# Altium footprint library KF接线端子.PcbLib: 88 footprints (part 1 of 6)
Each footprint in its own frame and in the unit in brackets; x right, y up, seen from the top. Pads: shape width x height; smd on the part's side, far side on the other; paste and mask are expansions set on the pad; w line width, h text height; cw(c..) or ccw(c..) is an arc to the next point about the centre after c.
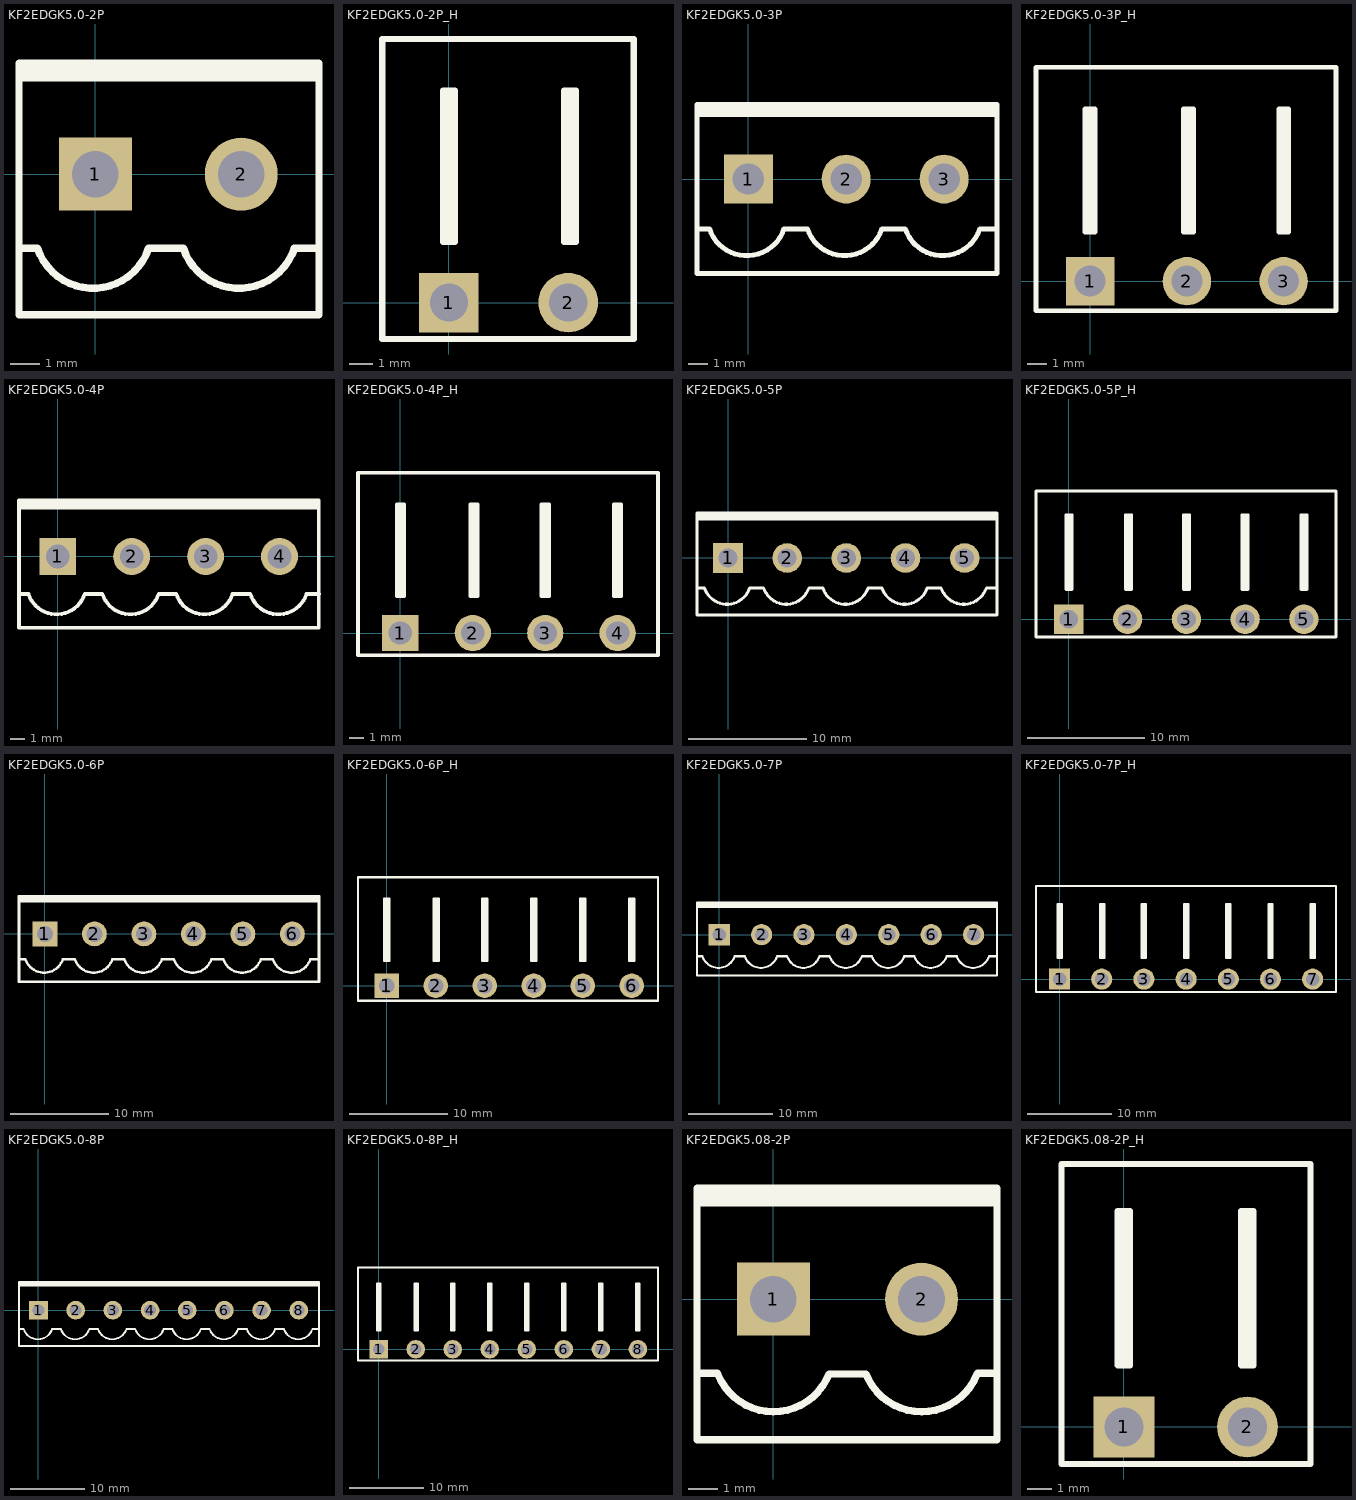
[diagram p0: the footprints below, top view; thin cyan lines are the x and y axes]

## KF2EDGK5.0-2P [mm] "直列插拔式端子"
pads (2):
  rect 2.5x2.5 hole 1.6: 1(0,0)
  round 2.5 hole 1.6: 2(5,0)
Top Overlay:
  lines w0.254: -2.62,-2.54 -1.985,-2.54 ccw(c-0.08,-1.905) 1.825,-2.54 3.015,-2.54 ccw(c4.92,-1.905) 6.825,-2.54 7.667,-2.54 ; -2.62,3.302 7.667,3.302 ; -2.62,3.556 7.667,3.556 ; -2.62,-4.826 7.667,-4.826 7.667,3.81 -2.62,3.81 -2.62,-4.826
3D body: height 11.25, standoff -2.95, extent 2.46,-4.75 7.54,3.75
3D body: height 11.25, standoff -2.95, extent -2.54,-4.75 2.54,3.75

## KF2EDGK5.0-2P_H [mm] "弯角插拔式端子"
pads (2):
  rect 2.5x2.5 hole 1.6: 1(0,0)
  round 2.5 hole 1.6: 2(5,0)
Top Overlay:
  lines w0.254: 0,2.54 0,8.89 ; 5.08,2.54 5.08,8.89 ; 0,8.89 0.254,8.89 0.254,2.54 -0.254,2.54 -0.254,8.89 0,8.89 ; 5.08,8.89 5.334,8.89 5.334,2.54 4.826,2.54 4.826,8.89 5.08,8.89 ; -2.794,-1.524 7.747,-1.524 7.747,11.049 -2.794,11.049 -2.794,-1.524
3D body: height 8.5, standoff -3, extent 2.46,-0.5 7.54,10.8
3D body: height 8.5, standoff -3, extent -2.54,-0.5 2.54,10.8

## KF2EDGK5.0-3P [mm] "直列插拔式端子"
pads (3):
  rect 2.5x2.5 hole 1.6: 1(0,0)
  round 2.5 hole 1.6: 2(5,0) 3(10,0)
Top Overlay:
  lines w0.254: -2.62,-2.54 -1.985,-2.54 ccw(c-0.08,-1.905) 1.825,-2.54 3.015,-2.54 ccw(c4.92,-1.905) 6.825,-2.54 8.015,-2.54 ccw(c9.92,-1.905) 11.825,-2.54 12.667,-2.54 ; -2.62,3.302 12.7,3.302 ; -2.62,3.556 12.7,3.556 ; -2.62,-4.826 12.7,-4.826 12.7,3.81 -2.62,3.81 -2.62,-4.826
3D body: height 11.25, standoff -2.95, extent -2.54,-4.75 2.54,3.75
3D body: height 11.25, standoff -2.95, extent 2.46,-4.75 7.54,3.75
3D body: height 11.25, standoff -2.95, extent 7.46,-4.75 12.54,3.75

## KF2EDGK5.0-3P_H [mm] "弯角插拔式端子"
pads (3):
  rect 2.5x2.5 hole 1.6: 1(0,0)
  round 2.5 hole 1.6: 2(5,0) 3(10,0)
Top Overlay:
  lines w0.254: 0,2.54 0,8.89 ; 5.08,2.54 5.08,8.89 ; 10,2.54 10,8.89 ; 0,8.89 0.254,8.89 0.254,2.54 -0.254,2.54 -0.254,8.89 0,8.89 ; 5.08,8.89 5.334,8.89 5.334,2.54 4.826,2.54 4.826,8.89 5.08,8.89 ; 10,8.89 9.746,8.89 9.746,2.54 10.254,2.54 10.254,8.89 10,8.89 ; -2.794,-1.524 12.7,-1.524 12.7,11.049 -2.794,11.049 -2.794,-1.524
3D body: height 8.5, standoff -3, extent -2.54,-0.5 2.54,10.8
3D body: height 8.5, standoff -3, extent 2.46,-0.5 7.54,10.8
3D body: height 8.5, standoff -3, extent 7.46,-0.5 12.54,10.8

## KF2EDGK5.0-4P [mm] "直列插拔式端子"
pads (4):
  rect 2.5x2.5 hole 1.6: 1(0,0)
  round 2.5 hole 1.6: 2(5,0) 3(10,0) 4(15,0)
Top Overlay:
  lines w0.254: -2.62,-2.54 -1.985,-2.54 ccw(c-0.08,-1.905) 1.825,-2.54 3.015,-2.54 ccw(c4.92,-1.905) 6.825,-2.54 8.015,-2.54 ccw(c9.92,-1.905) 11.825,-2.54 13.015,-2.54 ccw(c14.92,-1.905) 16.825,-2.54 17.667,-2.54 ; -2.62,3.302 17.653,3.302 ; -2.62,3.556 17.653,3.556 ; -2.62,-4.826 17.653,-4.826 17.653,3.81 -2.62,3.81 -2.62,-4.826
3D body: height 11.25, standoff -2.95, extent -2.54,-4.75 2.54,3.75
3D body: height 11.25, standoff -2.95, extent 2.46,-4.75 7.54,3.75
3D body: height 11.25, standoff -2.95, extent 7.46,-4.75 12.54,3.75
3D body: height 11.25, standoff -2.95, extent 12.46,-4.75 17.54,3.75

## KF2EDGK5.0-4P_H [mm] "弯角插拔式端子"
pads (4):
  rect 2.5x2.5 hole 1.6: 1(0,0)
  round 2.5 hole 1.6: 2(5,0) 3(10,0) 4(15,0)
Top Overlay:
  lines w0.254: 0,2.54 0,8.89 ; 5.08,2.54 5.08,8.89 ; 10,2.54 10,8.89 ; 15,2.54 15,8.89 ; 0,8.89 -0.254,8.89 -0.254,2.54 0.254,2.54 0.254,8.89 0,8.89 ; 5.08,8.89 4.826,8.89 4.826,2.54 5.334,2.54 5.334,8.89 5.08,8.89 ; 10,8.89 10.254,8.89 10.254,2.54 9.746,2.54 9.746,8.89 10,8.89 ; 15,8.89 14.746,8.89 14.746,2.54 15.254,2.54 15.254,8.89 15,8.89 ; -2.921,-1.524 -2.921,11.049 17.78,11.049 17.78,-1.524 -2.921,-1.524
3D body: height 8.5, standoff -3, extent 12.46,-0.5 17.54,10.8
3D body: height 8.5, standoff -3, extent 7.46,-0.5 12.54,10.8
3D body: height 8.5, standoff -3, extent 2.46,-0.5 7.54,10.8
3D body: height 8.5, standoff -3, extent -2.54,-0.5 2.54,10.8

## KF2EDGK5.0-5P [mm] "直列插拔式端子"
pads (5):
  rect 2.5x2.5 hole 1.6: 1(0,0)
  round 2.5 hole 1.6: 2(5,0) 3(10,0) 4(15,0) 5(20,0)
Top Overlay:
  lines w0.254: -2.62,-2.54 -1.985,-2.54 ccw(c-0.08,-1.905) 1.825,-2.54 3.015,-2.54 ccw(c4.92,-1.905) 6.825,-2.54 8.015,-2.54 ccw(c9.92,-1.905) 11.825,-2.54 13.015,-2.54 ccw(c14.92,-1.905) 16.825,-2.54 18.015,-2.54 ccw(c19.92,-1.905) 21.825,-2.54 22.667,-2.54 ; -2.62,3.302 22.606,3.302 ; -2.62,3.556 22.733,3.556 ; -2.62,-4.826 22.733,-4.826 22.733,3.81 -2.62,3.81 -2.62,-4.826
3D body: height 11.25, standoff -2.95, extent 17.46,-4.75 22.54,3.75
3D body: height 11.25, standoff -2.95, extent 12.46,-4.75 17.54,3.75
3D body: height 11.25, standoff -2.95, extent 7.46,-4.75 12.54,3.75
3D body: height 11.25, standoff -2.95, extent 2.46,-4.75 7.54,3.75
3D body: height 11.25, standoff -2.95, extent -2.54,-4.75 2.54,3.75

## KF2EDGK5.0-5P_H [mm] "弯角插拔式端子"
pads (5):
  rect 2.5x2.5 hole 1.6: 1(0,0)
  round 2.5 hole 1.6: 2(5,0) 3(10,0) 4(15,0) 5(20,0)
Top Overlay:
  lines w0.254: 0,2.54 0,8.89 ; 5.08,2.54 5.08,8.89 ; 10,2.54 10,8.89 ; 15,2.54 15,8.89 ; 20,2.54 20,8.89 ; 0,8.89 0.254,8.89 0.254,2.54 -0.254,2.54 -0.254,8.89 0,8.89 ; 5.08,8.89 5.334,8.89 5.334,2.54 4.826,2.54 4.826,8.89 5.08,8.89 ; 10,8.89 9.746,8.89 9.746,2.54 10.254,2.54 10.254,8.89 10,8.89 ; 15,8.89 15.254,8.89 15.254,2.54 14.746,2.54 14.746,8.89 15,8.89 ; 20,8.89 19.746,8.89 19.746,2.54 20.254,2.54 20.254,8.89 20,8.89 ; -2.794,-1.524 22.733,-1.524 22.733,10.922 -2.794,10.922 -2.794,-1.524
3D body: height 8.5, standoff -3, extent 17.46,-0.5 22.54,10.8
3D body: height 8.5, standoff -3, extent 12.46,-0.5 17.54,10.8
3D body: height 8.5, standoff -3, extent 7.46,-0.5 12.54,10.8
3D body: height 8.5, standoff -3, extent 2.46,-0.5 7.54,10.8
3D body: height 8.5, standoff -3, extent -2.54,-0.5 2.54,10.8

## KF2EDGK5.0-6P [mm] "直列插拔式端子"
pads (6):
  rect 2.5x2.5 hole 1.6: 1(0,0)
  round 2.5 hole 1.6: 2(5,0) 3(10,0) 4(15,0) 5(20,0) 6(25,0)
Top Overlay:
  lines w0.254: -2.62,-2.54 -1.985,-2.54 ccw(c-0.08,-1.905) 1.825,-2.54 3.015,-2.54 ccw(c4.92,-1.905) 6.825,-2.54 8.015,-2.54 ccw(c9.92,-1.905) 11.825,-2.54 13.015,-2.54 ccw(c14.92,-1.905) 16.825,-2.54 18.015,-2.54 ccw(c19.92,-1.905) 21.825,-2.54 23.015,-2.54 ccw(c24.92,-1.905) 26.825,-2.54 27.667,-2.54 ; -2.62,3.302 27.686,3.302 ; -2.62,3.556 27.686,3.556 ; -2.62,-4.826 27.686,-4.826 27.686,3.81 -2.62,3.81 -2.62,-4.826
3D body: height 11.25, standoff -2.95, extent -2.54,-4.75 2.54,3.75
3D body: height 11.25, standoff -2.95, extent 2.46,-4.75 7.54,3.75
3D body: height 11.25, standoff -2.95, extent 7.46,-4.75 12.54,3.75
3D body: height 11.25, standoff -2.95, extent 12.46,-4.75 17.54,3.75
3D body: height 11.25, standoff -2.95, extent 17.46,-4.75 22.54,3.75
3D body: height 11.25, standoff -2.95, extent 22.46,-4.75 27.54,3.75

## KF2EDGK5.0-6P_H [mm] "弯角插拔式端子"
pads (6):
  rect 2.5x2.5 hole 1.6: 1(0,0)
  round 2.5 hole 1.6: 2(5,0) 3(10,0) 4(15,0) 5(20,0) 6(25,0)
Top Overlay:
  lines w0.254: 0,2.54 0,8.89 ; 5.08,2.54 5.08,8.89 ; 10,2.54 10,8.89 ; 15,2.54 15,8.89 ; 20,2.54 20,8.89 ; 25,2.54 25,8.89 ; 0,8.89 0.254,8.89 0.254,2.54 -0.254,2.54 -0.254,8.89 0,8.89 ; 5.08,8.89 5.334,8.89 5.334,2.54 4.826,2.54 4.826,8.89 5.08,8.89 ; 10,8.89 9.746,8.89 9.746,2.54 10.254,2.54 10.254,8.89 10,8.89 ; 15,8.89 15.254,8.89 15.254,2.54 14.746,2.54 14.746,8.89 15,8.89 ; 20,8.89 19.746,8.89 19.746,2.54 20.254,2.54 20.254,8.89 20,8.89 ; 25,8.89 25.254,8.89 25.254,2.54 24.746,2.54 24.746,8.89 25,8.89 ; -2.921,-1.524 27.686,-1.524 27.686,11.049 -2.921,11.049 -2.921,-1.524
3D body: height 8.5, standoff -3, extent 22.46,-0.5 27.54,10.8
3D body: height 8.5, standoff -3, extent 17.46,-0.5 22.54,10.8
3D body: height 8.5, standoff -3, extent 12.46,-0.5 17.54,10.8
3D body: height 8.5, standoff -3, extent 7.46,-0.5 12.54,10.8
3D body: height 8.5, standoff -3, extent 2.46,-0.5 7.54,10.8
3D body: height 8.5, standoff -3, extent -2.54,-0.5 2.54,10.8

## KF2EDGK5.0-7P [mm] "直列插拔式端子"
pads (7):
  rect 2.5x2.5 hole 1.6: 1(0,0)
  round 2.5 hole 1.6: 2(5,0) 3(10,0) 4(15,0) 5(20,0) 6(25,0) 7(30,0)
Top Overlay:
  lines w0.254: -2.62,-2.54 -1.985,-2.54 ccw(c-0.08,-1.905) 1.825,-2.54 3.015,-2.54 ccw(c4.92,-1.905) 6.825,-2.54 8.015,-2.54 ccw(c9.92,-1.905) 11.825,-2.54 13.015,-2.54 ccw(c14.92,-1.905) 16.825,-2.54 18.015,-2.54 ccw(c19.92,-1.905) 21.825,-2.54 23.015,-2.54 ccw(c24.92,-1.905) 26.825,-2.54 28.015,-2.54 ccw(c29.92,-1.905) 31.825,-2.54 32.667,-2.54 ; -2.62,3.302 32.766,3.302 ; -2.62,3.556 32.766,3.556 ; -2.62,-4.826 32.766,-4.826 32.766,3.81 -2.62,3.81 -2.62,-4.826
3D body: height 11.25, standoff -2.95, extent 27.46,-4.75 32.54,3.75
3D body: height 11.25, standoff -2.95, extent 22.46,-4.75 27.54,3.75
3D body: height 11.25, standoff -2.95, extent 17.46,-4.75 22.54,3.75
3D body: height 11.25, standoff -2.95, extent 12.46,-4.75 17.54,3.75
3D body: height 11.25, standoff -2.95, extent 2.46,-4.75 7.54,3.75
3D body: height 11.25, standoff -2.95, extent 7.46,-4.75 12.54,3.75
3D body: height 11.25, standoff -2.95, extent -2.54,-4.75 2.54,3.75

## KF2EDGK5.0-7P_H [mm] "弯角插拔式端子"
pads (7):
  rect 2.5x2.5 hole 1.6: 1(0,0)
  round 2.5 hole 1.6: 2(5,0) 3(10,0) 4(15,0) 5(20,0) 6(25,0) 7(30,0)
Top Overlay:
  lines w0.254: 0,2.54 0,8.89 ; 5.08,2.54 5.08,8.89 ; 10,2.54 10,8.89 ; 15,2.54 15,8.89 ; 20,2.54 20,8.89 ; 25,2.54 25,8.89 ; 30,2.54 30,8.89 ; 0,8.89 -0.254,8.89 -0.254,2.54 0.254,2.54 0.254,8.89 0,8.89 ; 5.08,8.89 4.826,8.89 4.826,2.54 5.334,2.54 5.334,8.89 5.08,8.89 ; 10,8.89 10.254,8.89 10.254,2.54 9.746,2.54 9.746,8.89 10,8.89 ; 15,8.89 14.746,8.89 14.746,2.54 15.254,2.54 15.254,8.89 15,8.89 ; 20,8.89 20.254,8.89 20.254,2.54 19.746,2.54 19.746,8.89 20,8.89 ; 25,8.89 24.746,8.89 24.746,2.54 25.254,2.54 25.254,8.89 25,8.89 ; 30,8.89 30.254,8.89 30.254,2.54 29.746,2.54 29.746,8.89 30,8.89 ; -2.794,-1.524 -2.794,11.049 32.766,11.049 32.766,-1.524 -2.794,-1.524
3D body: height 8.5, standoff -3, extent -2.54,-0.5 2.54,10.8
3D body: height 8.5, standoff -3, extent 2.46,-0.5 7.54,10.8
3D body: height 8.5, standoff -3, extent 7.46,-0.5 12.54,10.8
3D body: height 8.5, standoff -3, extent 12.46,-0.5 17.54,10.8
3D body: height 8.5, standoff -3, extent 17.46,-0.5 22.54,10.8
3D body: height 8.5, standoff -3, extent 22.46,-0.5 27.54,10.8
3D body: height 8.5, standoff -3, extent 27.46,-0.5 32.54,10.8

## KF2EDGK5.0-8P [mm] "直列插拔式端子"
pads (8):
  rect 2.5x2.5 hole 1.6: 1(0,0)
  round 2.5 hole 1.6: 2(5,0) 3(10,0) 4(15,0) 5(20,0) 6(25,0) 7(30,0) 8(35,0)
Top Overlay:
  lines w0.254: -2.62,-2.54 -1.985,-2.54 ccw(c-0.08,-1.905) 1.825,-2.54 3.015,-2.54 ccw(c4.92,-1.905) 6.825,-2.54 8.015,-2.54 ccw(c9.92,-1.905) 11.825,-2.54 13.015,-2.54 ccw(c14.92,-1.905) 16.825,-2.54 18.015,-2.54 ccw(c19.92,-1.905) 21.825,-2.54 23.015,-2.54 ccw(c24.92,-1.905) 26.825,-2.54 28.015,-2.54 ccw(c29.92,-1.905) 31.825,-2.54 33.015,-2.54 ccw(c34.92,-1.905) 36.825,-2.54 37.667,-2.54 ; -2.62,3.302 37.592,3.302 ; -2.62,3.556 37.719,3.556 ; -2.62,-4.826 37.719,-4.826 37.719,3.81 -2.62,3.81 -2.62,-4.826
3D body: height 11.25, standoff -2.95, extent 32.46,-4.75 37.54,3.75
3D body: height 11.25, standoff -2.95, extent 27.46,-4.75 32.54,3.75
3D body: height 11.25, standoff -2.95, extent 22.46,-4.75 27.54,3.75
3D body: height 11.25, standoff -2.95, extent 17.46,-4.75 22.54,3.75
3D body: height 11.25, standoff -2.95, extent 12.46,-4.75 17.54,3.75
3D body: height 11.25, standoff -2.95, extent 7.46,-4.75 12.54,3.75
3D body: height 11.25, standoff -2.95, extent 2.46,-4.75 7.54,3.75
3D body: height 11.25, standoff -2.95, extent -2.54,-4.75 2.54,3.75

## KF2EDGK5.0-8P_H [mm] "弯角插拔式端子"
pads (8):
  rect 2.5x2.5 hole 1.6: 1(0,0)
  round 2.5 hole 1.6: 2(5,0) 3(10,0) 4(15,0) 5(20,0) 6(25,0) 7(30,0) 8(35,0)
Top Overlay:
  lines w0.254: 0,2.54 0,8.89 ; 5.08,2.54 5.08,8.89 ; 10,2.54 10,8.89 ; 15,2.54 15,8.89 ; 20,2.54 20,8.89 ; 25,2.54 25,8.89 ; 30,2.54 30,8.89 ; 35,2.54 35,8.89 ; 0,8.89 0.254,8.89 0.254,2.54 -0.254,2.54 -0.254,8.89 0,8.89 ; 5.08,8.89 5.334,8.89 5.334,2.54 4.826,2.54 4.826,8.89 5.08,8.89 ; 10,8.89 9.746,8.89 9.746,2.54 10.254,2.54 10.254,8.89 10,8.89 ; 15,8.89 15.254,8.89 15.254,2.54 14.746,2.54 14.746,8.89 15,8.89 ; 20,8.89 19.746,8.89 19.746,2.54 20.254,2.54 20.254,8.89 20,8.89 ; 25,8.89 25.254,8.89 25.254,2.54 24.746,2.54 24.746,8.89 25,8.89 ; 30,8.89 29.746,8.89 29.746,2.54 30.254,2.54 30.254,8.89 30,8.89 ; 35,8.89 35.254,8.89 35.254,2.54 34.746,2.54 34.746,8.89 35,8.89 ; -2.794,-1.524 37.719,-1.524 37.719,11.049 -2.794,11.049 -2.794,-1.524
3D body: height 8.5, standoff -3, extent 32.46,-0.5 37.54,10.8
3D body: height 8.5, standoff -3, extent 27.46,-0.5 32.54,10.8
3D body: height 8.5, standoff -3, extent 22.46,-0.5 27.54,10.8
3D body: height 8.5, standoff -3, extent 17.46,-0.5 22.54,10.8
3D body: height 8.5, standoff -3, extent 12.46,-0.5 17.54,10.8
3D body: height 8.5, standoff -3, extent 7.46,-0.5 12.54,10.8
3D body: height 8.5, standoff -3, extent 2.46,-0.5 7.54,10.8
3D body: height 8.5, standoff -3, extent -2.54,-0.5 2.54,10.8

## KF2EDGK5.08-2P [mm] "直列插拔式端子"
pads (2):
  rect 2.5x2.5 hole 1.6: 1(0,0)
  round 2.5 hole 1.6: 2(5.08,0)
Top Overlay:
  lines w0.254: -2.62,3.302 7.667,3.302 ; -2.62,3.556 7.667,3.556 ; -2.54,-2.54 -1.93,-2.54 ; -1.905,-2.565 ccw(c0,-1.812) 1.905,-2.565 2.54,-2.565 3.175,-2.565 ccw(c5.08,-1.812) 6.985,-2.565 ; 7.01,-2.54 7.62,-2.54 ; -2.62,-4.826 -2.62,3.81 7.667,3.81 7.667,-4.826 -2.62,-4.826
3D body: height 11.25, standoff -2.95, extent -2.54,-4.75 2.54,3.75
3D body: height 11.25, standoff -2.95, extent 2.54,-4.75 7.62,3.75

## KF2EDGK5.08-2P_H [mm] "弯角插拔式端子"
pads (2):
  rect 2.5x2.5 hole 1.6: 1(0,0)
  round 2.5 hole 1.6: 2(5.08,0)
Top Overlay:
  lines w0.254: 0,2.54 0,8.89 ; 5.08,2.54 5.08,8.89 ; 0,8.89 -0.254,8.89 -0.254,2.54 0.254,2.54 0.254,8.89 0,8.89 ; 5.08,8.89 5.334,8.89 5.334,2.54 4.826,2.54 4.826,8.89 5.08,8.89 ; -2.565,-1.524 -2.565,10.82 7.671,10.82 7.671,-1.524 -2.565,-1.524
3D body: height 8.5, standoff -3, extent -2.54,-0.5 2.54,10.8
3D body: height 8.5, standoff -3, extent 2.54,-0.5 7.62,10.8